# Altium schematic symbol library Component.SchLib: 48 symbols
Pins are listed as number, name and electrical type; pins without a type are passive.

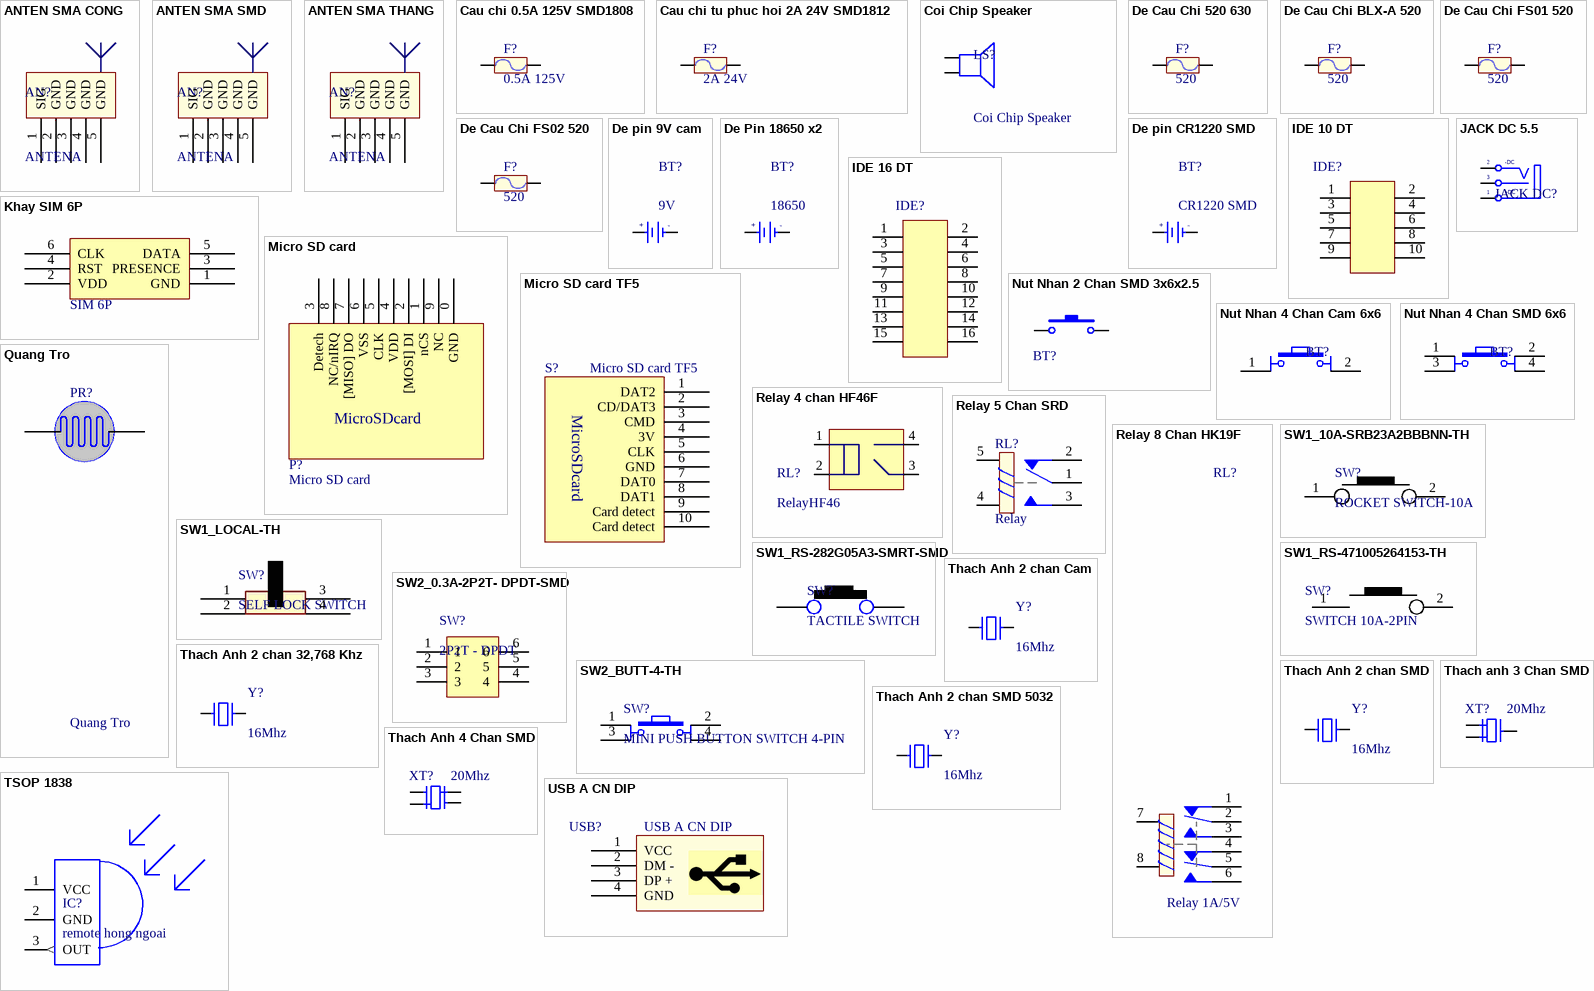
[diagram p0: symbols ANTEN SMA CONG to USB A CN DIP]

## ANTEN SMA CONG
designator AN?, comment ANTENA
Generic Antenna
footprint DE ANTEN SMA CONG
pins: 1 SIG, 2 GND, 3 GND, 4 GND, 5 GND

## ANTEN SMA SMD
designator AN?, comment ANTENA
Generic Antenna
footprint De Anten SMA SMD
pins: 1 SIG, 2 GND, 3 GND, 4 GND, 5 GND

## ANTEN SMA THANG
designator AN?, comment ANTENA
Generic Antenna
footprint De Anten SMA SMD
footprint DE ANTEN SMA THANG
pins: 1 SIG, 2 GND, 3 GND, 4 GND, 5 GND

## Cau chi 0.5A 125V SMD1808
designator F?, comment 0.5A 125V
Cau chi 0.5A 125V SMD1808; Ma_Hang: MH009241; Ten: Cầu Chì 0.5A 125V SMD1808 0451.500MRL
footprint Cau Chi SMD1808
pins: 1, 2

## Cau chi tu phuc hoi 2A 24V SMD1812
designator F?, comment 2A 24V
2A 24V SMD1812; Ma_Hang: MH010033; Ten: Cầu Chì Tự Phục Hồi 2A 24V SMD1812
footprint Cau chi tu phuc hoi 2A 24V SMD1812 (Footprint not found)
pins: 1, 2

## Coi Chip Speaker
designator LS?
Còi chip
footprint Coi Chip Speacker
pins: 1, 2

## De Cau Chi 520 630
designator F?, comment 520
5x20mm; Ma_Hang: MH001473; Ten: Đế Cầu Chì 5x20MM 6x30MM SMD01
footprint De Cau Chi 520 630 (De Fuse)
pins: 1, 2

## De Cau Chi BLX-A 520
designator F?, comment 520
5x20mm; Ma_Hang: MH003716; Ten: Đế Cầu Chì BLX-A 5x20MM
footprint De Cau Chi BLX-A 520 (PCB - Clip Cover - THR)
pins: 1, 2

## De Cau Chi FS01 520
designator F?, comment 520
5x20mm; Ma_Hang: MH003640; Ten: Đế Cầu Chì FS01-520 5x20MM
footprint De Cau Chi FS01 520 (FUSEHOLDER BLOCKS - PCB - CLIP COVER - THT - WR-FSH)
pins: 1, 2

## De Cau Chi FS02 520
designator F?, comment 520
5x20mm; Ma_Hang: MH003641; Ten: Đế Cầu Chì FS02-520 5x20MM
footprint De Cau Chi FS02 520 (FUSEHOLDER BLOCKS - PCB - CLIP COVER - THT - WR-FSH)
pins: 1, 2

## De pin 9V cam
designator BT?, comment 9V
De Pin 9V; Ten: Hộp Đế Pin 9V Thường; Ma_Hang: MH002680
footprint De Pin 9V
pins: 1 +3V, 2 GND
text: +; -

## De Pin 18650 x2
designator BT?, comment 18650
De Pin 18650 x2; Ten: Hộp Đế Pin 18650 Hàn Mạch DP 18650-HM-02; Ma_Hang: MH010812
footprint DE PIN 18650 X2 (2-cell AA battery holder)
pins: 1 +3V, 2 GND
text: +; -

## De pin CR1220 SMD
designator BT?, comment CR1220 SMD
Ten: Đế PIN CR1220 SMD; Ma_Hang: MH000833
footprint DE PIN CR1220
pins: 1 +3V, 2 GND
text: +; -

## IDE 10 DT
designator IDE?, comment IDE10  (value not drawn)
footprint IDE 10 DT (Connector; Header; 5x2 Position)
pins: 1, 2, 3, 4, 5, 6, 7, 8, 9, 10

## IDE 16 DT
designator IDE?, comment IDE16  (value not drawn)
footprint IDE16 DT
pins: 1, 2, 3, 4, 5, 6, 7, 8, 9, 10, 11, 12, 13, 14, 15 14, 16 14

## JACK DC 5.5
designator JACK DC?
JACK DC 5.5; Value: Jac DC
footprint JACK DC 5.5 (Jac DC input)
pins: 1 T "Tip", 2 TN "Tip Normal (Break Contact)", 3 S (power) "Sleeve (Ground)"
text: -DC; +DC

## Khay SIM 6P
designator SIM?, comment SIM 6P
footprint sim6
pins: 1 GND, 2 VDD, 3 PRESENCE, 4 RST, 5 DATA, 6 CLK

## Micro SD card
designator P?
footprint MicroSD
pins: 0 GND, 1 nCS, 2 [MOSI] DI, 3 Detech, 4 VDD, 5 CLK, 6 VSS, 7 [MISO] DO, 8 NC/nIRQ, 9 NC
text: MicroSDcard

## Micro SD card TF5
designator S?
footprint MicroSD TF V5
pins: 1 DAT2, 2 CD/DAT3, 3 CMD, 4 3V, 5 CLK, 6 GND, 7 DAT0, 8 DAT1, 9 Card detect, 10 Card detect
text: MicroSDcard

## Nut Nhan 2 Chan SMD 3x6x2.5
designator BT?
Nut Nhan 2 Chan SMD 3x6x2.5; Ma_Hang: MH001036; Ten: Nút Nhấn 2 Chân 3x6x2.5MM SMD
footprint Nut Nhan 2 Chan SMD 3x6x2.5 (Footprint not found)
pins: 1, 2

## Nut Nhan 4 Chan Cam 6x6
designator BT?
Nut Nhan 4 Chan 6x6mm; Ten: Nút Nhấn 4 Chân 6x6x5MM DIP; Ma_Hang: MH004584
footprint Nut Nhan 4 Chan Cam 6x6 (Footprint not found)
pins: 1, 2

## Nut Nhan 4 Chan SMD 6x6
designator BT?
Nut Nhan 4 Chan 6.2x6.2x3.5; Ten: Nút Nhấn 4 Chân 6.2x6.2x3.1MM SMD; Ma_Hang: MH002424
footprint Nut Nhan 4 Chan SMD 6x6 (Footprint not found)
pins: 1, 2, 3, 4

## Quang Tro
designator PR?
Photoresistor; Creator: Bien Nguyen
footprint Quang Tro (QUANG TRO)
pins: 1, 2

## Relay 4 chan HF46F
designator RL?, comment RelayHF46
Relay 4 chan HF46F; Ten: Relay 5V5A HF46F-G 5-HS1; Ma_Hang: MH003879
footprint Relay 4 chan HF46F
pins: 1, 2, 3 AC/DC, 4 AC/DC

## Relay 5 Chan SRD
designator RL?, comment Relay
Relay 5 Chan; Ma_Hang: MH009374; Ten: Relay 5V10A SRD-05VDC-SL-C Chính Hãng
footprint Relay 5 Chan SRD (Footprint not found)
pins: 1, 2, 3, 4, 5

## Relay 8 Chan HK19F
designator RL?, comment Relay 1A/5V
Relay 8 Chan HK19F; Ten: Relay 5V1A 8 Chân HK19F-DC05V-SHG; Ma_Hang: MH001504
footprint Relay 8 Chan HK19F (Footprint not found)
pins: 1, 2, 3, 4, 5, 6, 7, 8

## SW1_10A-SRB23A2BBBNN-TH
designator SW?, comment ROCKET SWITCH-10A
Rocker Switch SPDT 10A (AC) 125V Panel Mount, Snap-In; Manufacturer: ITT C&K; Manufacturer Part Number: SRB23A2BBBNN; Alternate Part Number-1: NA; Case/Package: TH; Supplier-1: SP ROAD; Supplier Part Number-1: SRB23A2BBBNN
footprint SW_2ARS_TH
pins: 1, 2

## SW1_LOCAL-TH
designator SW?, comment SELF LOCK SWITCH
6 Pin DPDT Mini Push Button Self-locking Switch Multimeter Switch; Manufacturer Part Number: NA; Case/Package: TH; Manufacturer: NA; Supplier-1: SP ROAD; Supplier Part Number-1: NA; Alternate Part Number-1: NA
footprint SW_70_31.5D47_TH_ST
pins: 1, 2, 3, 4

## SW1_RS-282G05A3-SMRT-SMD
designator SW?, comment TACTILE SWITCH
Tactile Switch SPST-NO Top Actuated Surface Mount; Manufacturer: ITT C&K; Manufacturer Part Number: RS-282G05A3-SMRT; Alternate Part Number-1: NA; Case/Package: SMD; Supplier-1: SP ROAD; Supplier Part Number-1: RS-282G05A3-SMRT
footprint SW_342_SMD
pins: 1, 2

## SW1_RS-471005264153-TH
designator SW?, comment SWITCH 10A-2PIN
Rocker Switch SPST 16A (AC), 10A (DC) 250V Panel Mount, Snap-In; Manufacturer: Würth Elektronik; Manufacturer Part Number: 471005264153; Alternate Part Number-1: NA; Case/Package: TH; Supplier-1: Würth Elektronik; Supplier Part Number-1: 471005264153
footprint SW_2ARS_TH
pins: 1, 2

## SW2_0.3A-2P2T- DPDT-SMD
designator SW?, comment 2P2T - DPDT
PCB Mountable Slide Switch. Double Pole, Double Throw = DPDT; Manufacturer: NA; Manufacturer Part Number: NA; Supplier-1: Sunrom; Supplier Part Number-1: 5261; Case/Package: SMD; Alternate Part Number-1: NA
footprint SW_2P2T-DPDT_SMD (PCB Mountable Slide Switch. Double Pole, Double Throw = DPDT)
signal-integrity model Model Name (Model Description)
signal-integrity model Model Name (Model Description)
simulation model Model Name (Model Description)
ibis Model Name (Model Description)
signal-integrity model Model Name (Model Description)
footprint Model Name (Footprint not found)
pins: 1, 2, 3, 4, 5, 6

## SW2_BUTT-4-TH
designator SW?, comment MINI PUSH BUTTON SWITCH 4-PIN
Tactile Switches MINI PUSH BUTTON SWITCH 4-PIN QTY. 4; Manufacturer: Gravitech; Manufacturer Part Number: BUTT-4; Alternate Part Number-1: NA; Case/Package: TH; Supplier-1: SP ROAD; Supplier Part Number-1: BUTT-4
footprint SW_70_31.5D47_TH_ST
pins: 1, 2, 3, 4

## Thach Anh 2 chan 32,768 Khz
designator Y?, comment 16Mhz
Crystal For all Crystal 2pin.; Value: 4Mhz
footprint Thach Anh 2 Chan 32,768 KHz
pins: 1, 2

## Thach Anh 2 chan Cam
designator Y?, comment 16Mhz
Crystal For all Crystal 2pin.; Value: 4Mhz
footprint Thach Anh 2 chan cam
pins: 1, 2

## Thach Anh 2 chan SMD
designator Y?, comment 16Mhz
Crystal For all Crystal 2pin.; Value: 4Mhz
footprint Thach Anh 2 chan SMD (SMD Crystal HC49/US-SM package)
pins: 1, 2

## Thach Anh 2 chan SMD 5032
designator Y?, comment 16Mhz
Crystal For all Crystal 2pin.; Value: 4Mhz
footprint Thach Anh 2 chan SMD5032 (DO-214-AA/SMB; 2 C-Bend Leads; Body 5.3 x 3.6 mm, inc. leads (LxW))
pins: 1, 2

## Thach anh 3 Chan SMD
designator XT?, comment 20Mhz
Crystal For all Crystal 2pin.; Value: 4Mhz
footprint Thach Anh 3 Chan SMD (Footprint not found)
pins: 1, 2, 3

## Thach Anh 4 Chan SMD
designator XT?, comment 20Mhz
Crystal For all Crystal 2pin.; Value: 4Mhz
footprint Thach Anh 4 chan 1 (SMD Crystal 4-lead leadless package)
footprint Thach Anh 4 chan 2
footprint Thach Anh 4 chan 3 (SMD Crystal 4-lead leadless package)
pins: 1, 2, 3, 4

## TSOP 1838
designator IC?, comment remote hong ngoai
footprint TSOP1838 (remote hong ngoai)
pins: 1 VCC, 2 GND, 3 OUT (out)

## USB A CN DIP
designator USB?
USB Type A; Ten: USB A Cái DIP; Ma_Hang: MH000941
footprint USB A CN DIP (THT, USB 2.0 A Connector, 4Pin, Body 15.8 x14.5mm)
pins: 1 VCC, 2 DM -, 3 DP +, 4 GND

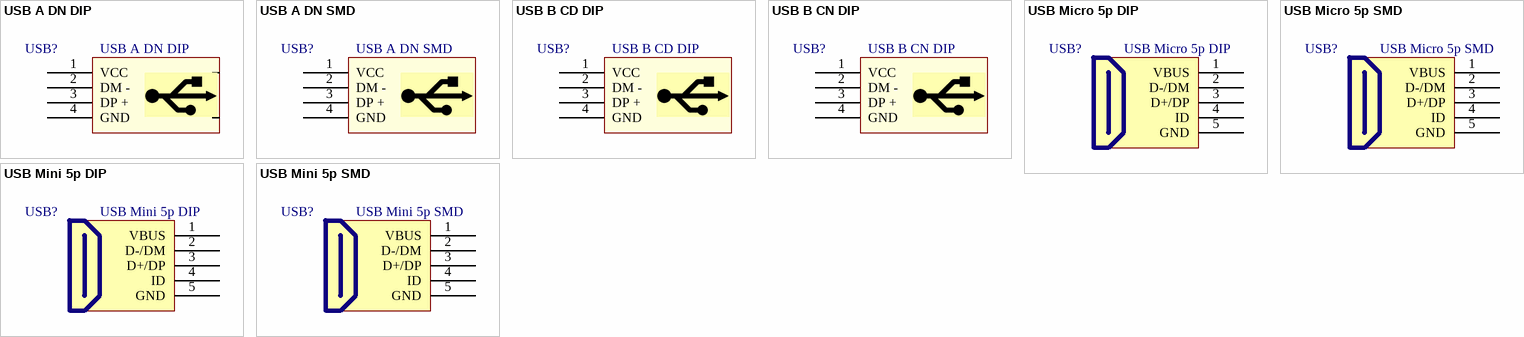
[diagram p1: symbols USB A DN DIP to USB Mini 5p SMD]

## USB A DN DIP
designator USB?
USB Type A; Ten: USB A Đực DIP; Ma_Hang: MH000940
footprint USB A DN DIP
pins: 1 VCC, 2 DM -, 3 DP +, 4 GND, 5, 6

## USB A DN SMD
designator USB?
USB Type A; Ten: USB A Đực SMD USB-A-S01; Ma_Hang: MH000938
footprint USB A DN SMD (For USB SMD)
pins: 1 VCC, 2 DM -, 3 DP +, 4 GND

## USB B CD DIP
designator USB?
USB Type B; Ten: USB B Cái 180 (Loại Đứng); Ma_Hang: MH007927
footprint USB B CD DIP
pins: 1 VCC, 2 DM -, 3 DP +, 4 GND

## USB B CN DIP
designator USB?
USB Type B; Ten: USB B Cái DIP; Ma_Hang: MH000939
footprint USB B CN DIP
pins: 1 VCC, 2 DM -, 3 DP +, 4 GND

## USB Micro 5p DIP
designator USB?
USB Type B; Ten: MicroUSB MK5P DIP; Ma_Hang: MH005145
footprint USB Micro 5p DIP
pins: 1 VBUS, 2 D-/DM, 3 D+/DP, 4 ID, 5 GND

## USB Micro 5p SMD
designator USB?
USB Type B; Ten: MicroUSB MK5P SMD; Ma_Hang: MH001020
footprint USB Micro 5p SMD
pins: 1 VBUS, 2 D-/DM, 3 D+/DP, 4 ID, 5 GND

## USB Mini 5p DIP
designator USB?
USB Type B; Ten: MiniUSB 5P DIP; Ma_Hang: MH001021
footprint USB Mini 5p DIP
pins: 1 VBUS, 2 D-/DM, 3 D+/DP, 4 ID, 5 GND

## USB Mini 5p SMD
designator USB?
USB Type B; Ten: MiniUSB 5P SMD; Ma_Hang: MH001022
footprint USB Mini 5p SMD
pins: 1 VBUS, 2 D-/DM, 3 D+/DP, 4 ID, 5 GND